# EAGLE library part OPA2210 (library pepin)
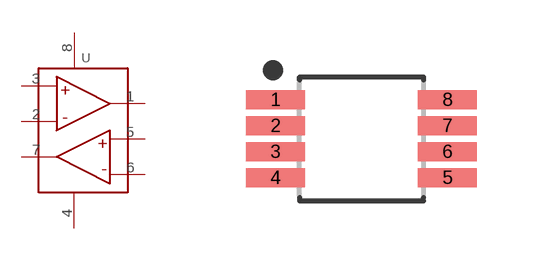
[diagram p5: symbol with the pads of SOP65P490X110-8; footprint SOP65P490X110-8]

Designator prefix U

## OPA2210VSSOP8  [SOP65P490X110-8]
1  OUT1
2  IN1-
3  IN1+
4  V-  pwr
5  IN2+
6  IN2-
7  OUT2
8  V+  pwr

## Footprint SOP65P490X110-8 (pad centres in mm)
8-SOP, 0.65 mm pitch, 4.90 mm span, 3.00 X 3.00 X 1.10 mm body 8-pin SOP package with 0.65 mm pitch, 4.90 mm span with body size 3.00 X 3.00 X 1.10 mm
smd 1.471 x 0.481: 1 -2.15,0.975; 2 -2.15,0.325; 3 -2.15,-0.325; 4 -2.15,-0.975; 5 2.15,-0.975; 6 2.15,-0.325; 7 2.15,0.325; 8 2.15,0.975